# Altium schematic symbol library B3F-3150.SchLib: 1 symbol
Pins are listed as number, name and electrical type; pins without a type are passive.

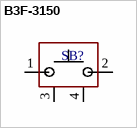
[diagram p0: symbol B3F-3150]

## B3F-3150
designator SB?
pins: 1  , 2  , 3  , 4  